# Altium schematic symbol library Amphenol LTW.SCHLIB: 1 symbol
Pins are listed as number, name and electrical type; pins without a type are passive.

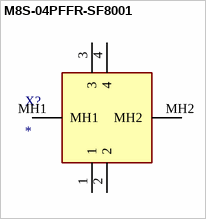
[diagram p0: symbol M8S-04PFFR-SF8001]

## M8S-04PFFR-SF8001
designator X?
Connector
footprint M8S04PFFRSF8001
pins: 1, 2, 3, 4, MH1, MH2